# Altium footprint library JW2SN-DC12V-Relay.PcbLib: 1 footprints
Each footprint in its own frame and in the unit in brackets; x right, y up, seen from the top. Pads: shape width x height; smd on the part's side, far side on the other; paste and mask are expansions set on the pad; w line width, h text height; cw(c..) or ccw(c..) is an arc to the next point about the centre after c.
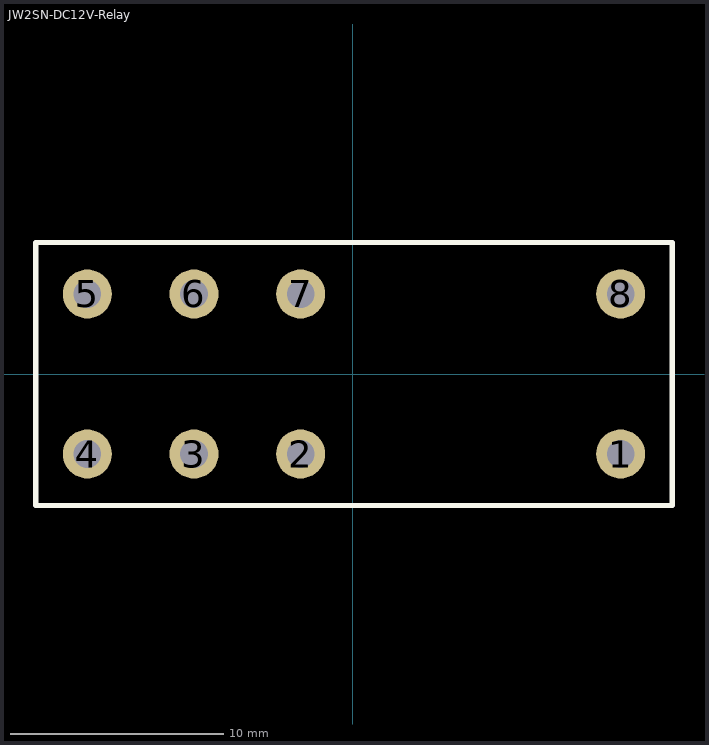
[diagram p0: the footprint, top view; thin cyan lines are the x and y axes]

## JW2SN-DC12V-Relay [mm] "JW2SN-DC12V"
pads (8):
  round 2.3 hole 1.3: 1(12.554,-3.75) 2(-2.446,-3.75) 3(-7.446,-3.75) 4(-12.446,-3.75) 5(-12.446,3.75) 6(-7.446,3.75) 7(-2.446,3.75) 8(12.554,3.75)
Top Overlay:
  lines w0.254: -14.859,-6.163 14.967,-6.163 14.967,6.163 -14.859,6.163 -14.859,0 -14.859,-6.163
3D body: height 20, standoff 0, extent -14.732,-6.096 14.859,6.096